# Altium footprint library intersil-techwell.PCBLIB: 1 footprints
Each footprint in its own frame and in the unit in brackets; x right, y up, seen from the top. Pads: shape width x height; smd on the part's side, far side on the other; paste and mask are expansions set on the pad; w line width, h text height; cw(c..) or ccw(c..) is an arc to the next point about the centre after c.
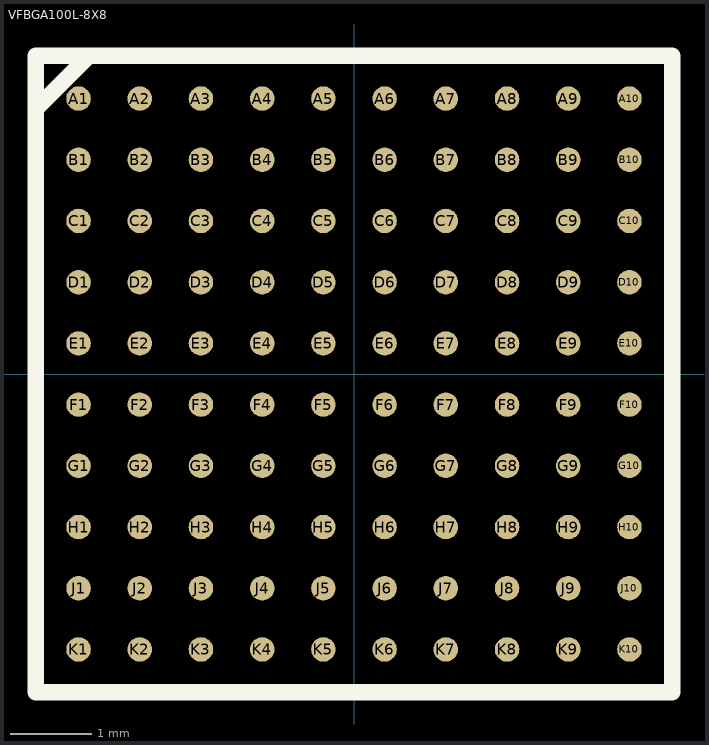
[diagram p0: the footprint, top view; thin cyan lines are the x and y axes]

## VFBGA100L-8X8 [mm]
pads (100):
  rrect100% 0.3x0.3 smd: A1(-3.375,3.375) A2(-2.625,3.375) A3(-1.875,3.375) A4(-1.125,3.375) A5(-0.375,3.375) A6(0.375,3.375) A7(1.125,3.375) A8(1.875,3.375) A9(2.625,3.375) A10(3.375,3.375) B1(-3.375,2.625) B2(-2.625,2.625) B3(-1.875,2.625) B4(-1.125,2.625) B5(-0.375,2.625) B6(0.375,2.625) B7(1.125,2.625) B8(1.875,2.625) B9(2.625,2.625) B10(3.375,2.625) C1(-3.375,1.875) C2(-2.625,1.875) C3(-1.875,1.875) C4(-1.125,1.875) C5(-0.375,1.875) C6(0.375,1.875) C7(1.125,1.875) C8(1.875,1.875) C9(2.625,1.875) C10(3.375,1.875) D1(-3.375,1.125) D2(-2.625,1.125) D3(-1.875,1.125) D4(-1.125,1.125) D5(-0.375,1.125) D6(0.375,1.125) D7(1.125,1.125) D8(1.875,1.125) D9(2.625,1.125) D10(3.375,1.125) E1(-3.375,0.375) E2(-2.625,0.375) E3(-1.875,0.375) E4(-1.125,0.375) E5(-0.375,0.375) E6(0.375,0.375) E7(1.125,0.375) E8(1.875,0.375) E9(2.625,0.375) E10(3.375,0.375) F1(-3.375,-0.375) F2(-2.625,-0.375) F3(-1.875,-0.375) F4(-1.125,-0.375) F5(-0.375,-0.375) F6(0.375,-0.375) F7(1.125,-0.375) F8(1.875,-0.375) F9(2.625,-0.375) F10(3.375,-0.375) G1(-3.375,-1.125) G2(-2.625,-1.125) G3(-1.875,-1.125) G4(-1.125,-1.125) G5(-0.375,-1.125) G6(0.375,-1.125) G7(1.125,-1.125) G8(1.875,-1.125) G9(2.625,-1.125) G10(3.375,-1.125) H1(-3.375,-1.875) H2(-2.625,-1.875) H3(-1.875,-1.875) H4(-1.125,-1.875) H5(-0.375,-1.875) H6(0.375,-1.875) H7(1.125,-1.875) H8(1.875,-1.875) H9(2.625,-1.875) H10(3.375,-1.875) J1(-3.375,-2.625) J2(-2.625,-2.625) J3(-1.875,-2.625) J4(-1.125,-2.625) J5(-0.375,-2.625) J6(0.375,-2.625) J7(1.125,-2.625) J8(1.875,-2.625) J9(2.625,-2.625) J10(3.375,-2.625) K1(-3.375,-3.375) K2(-2.625,-3.375) K3(-1.875,-3.375) K4(-1.125,-3.375) K5(-0.375,-3.375) K6(0.375,-3.375) K7(1.125,-3.375) K8(1.875,-3.375) K9(2.625,-3.375) K10(3.375,-3.375)
Top Overlay:
  lines w0.203: -3.898,3.25 -3.25,3.898 ; -3.898,-3.898 3.898,-3.898 3.898,3.898 -3.898,3.898 -3.898,-3.898
Top Solder:
  circle w0: c3.375,-3.375 r0.15
  circle w0: c2.625,-3.375 r0.15
  circle w0: c1.875,-3.375 r0.15
  circle w0: c1.125,-3.375 r0.15
  circle w0: c0.375,-3.375 r0.15
  circle w0: c-0.375,-3.375 r0.15
  circle w0: c-1.125,-3.375 r0.15
  circle w0: c-1.875,-3.375 r0.15
  circle w0: c-2.625,-3.375 r0.15
  circle w0: c-3.375,-3.375 r0.15
  circle w0: c3.375,-2.625 r0.15
  circle w0: c2.625,-2.625 r0.15
  circle w0: c1.875,-2.625 r0.15
  circle w0: c1.125,-2.625 r0.15
  circle w0: c0.375,-2.625 r0.15
  circle w0: c-0.375,-2.625 r0.15
  circle w0: c-1.125,-2.625 r0.15
  circle w0: c-1.875,-2.625 r0.15
  circle w0: c-2.625,-2.625 r0.15
  circle w0: c-3.375,-2.625 r0.15
  circle w0: c3.375,-1.875 r0.15
  circle w0: c2.625,-1.875 r0.15
  circle w0: c1.875,-1.875 r0.15
  circle w0: c1.125,-1.875 r0.15
  circle w0: c0.375,-1.875 r0.15
  circle w0: c-0.375,-1.875 r0.15
  circle w0: c-1.125,-1.875 r0.15
  circle w0: c-1.875,-1.875 r0.15
  circle w0: c-2.625,-1.875 r0.15
  circle w0: c-3.375,-1.875 r0.15
  circle w0: c3.375,-1.125 r0.15
  circle w0: c2.625,-1.125 r0.15
  circle w0: c1.875,-1.125 r0.15
  circle w0: c1.125,-1.125 r0.15
  circle w0: c0.375,-1.125 r0.15
  circle w0: c-0.375,-1.125 r0.15
  circle w0: c-1.125,-1.125 r0.15
  circle w0: c-1.875,-1.125 r0.15
  circle w0: c-2.625,-1.125 r0.15
  circle w0: c-3.375,-1.125 r0.15
  circle w0: c3.375,-0.375 r0.15
  circle w0: c2.625,-0.375 r0.15
  circle w0: c1.875,-0.375 r0.15
  circle w0: c1.125,-0.375 r0.15
  circle w0: c0.375,-0.375 r0.15
  circle w0: c-0.375,-0.375 r0.15
  circle w0: c-1.125,-0.375 r0.15
  circle w0: c-1.875,-0.375 r0.15
  circle w0: c-2.625,-0.375 r0.15
  circle w0: c-3.375,-0.375 r0.15
  circle w0: c3.375,0.375 r0.15
  circle w0: c2.625,0.375 r0.15
  circle w0: c1.875,0.375 r0.15
  circle w0: c1.125,0.375 r0.15
  circle w0: c0.375,0.375 r0.15
  circle w0: c-0.375,0.375 r0.15
  circle w0: c-1.125,0.375 r0.15
  circle w0: c-1.875,0.375 r0.15
  circle w0: c-2.625,0.375 r0.15
  circle w0: c-3.375,0.375 r0.15
  circle w0: c3.375,1.125 r0.15
  circle w0: c2.625,1.125 r0.15
  circle w0: c1.875,1.125 r0.15
  circle w0: c1.125,1.125 r0.15
  circle w0: c0.375,1.125 r0.15
  circle w0: c-0.375,1.125 r0.15
  circle w0: c-1.125,1.125 r0.15
  circle w0: c-1.875,1.125 r0.15
  circle w0: c-2.625,1.125 r0.15
  circle w0: c-3.375,1.125 r0.15
  circle w0: c3.375,1.875 r0.15
  circle w0: c2.625,1.875 r0.15
  circle w0: c1.875,1.875 r0.15
  circle w0: c1.125,1.875 r0.15
  circle w0: c0.375,1.875 r0.15
  circle w0: c-0.375,1.875 r0.15
  circle w0: c-1.125,1.875 r0.15
  circle w0: c-1.875,1.875 r0.15
  circle w0: c-2.625,1.875 r0.15
  circle w0: c-3.375,1.875 r0.15
  circle w0: c3.375,2.625 r0.15
  circle w0: c2.625,2.625 r0.15
  circle w0: c1.875,2.625 r0.15
  circle w0: c1.125,2.625 r0.15
  circle w0: c0.375,2.625 r0.15
  circle w0: c-0.375,2.625 r0.15
  circle w0: c-1.125,2.625 r0.15
  circle w0: c-1.875,2.625 r0.15
  circle w0: c-2.625,2.625 r0.15
  circle w0: c-3.375,2.625 r0.15
  circle w0: c3.375,3.375 r0.15
  circle w0: c2.625,3.375 r0.15
  circle w0: c1.875,3.375 r0.15
  circle w0: c1.125,3.375 r0.15
  circle w0: c0.375,3.375 r0.15
  circle w0: c-0.375,3.375 r0.15
  circle w0: c-1.125,3.375 r0.15
  circle w0: c-1.875,3.375 r0.15
  circle w0: c-2.625,3.375 r0.15
  circle w0: c-3.375,3.375 r0.15